# Altium integrated library SparkFun-Displays.Library.IntLib: 27 symbols
Pins are listed as number, name and electrical type; pins without a type are passive.

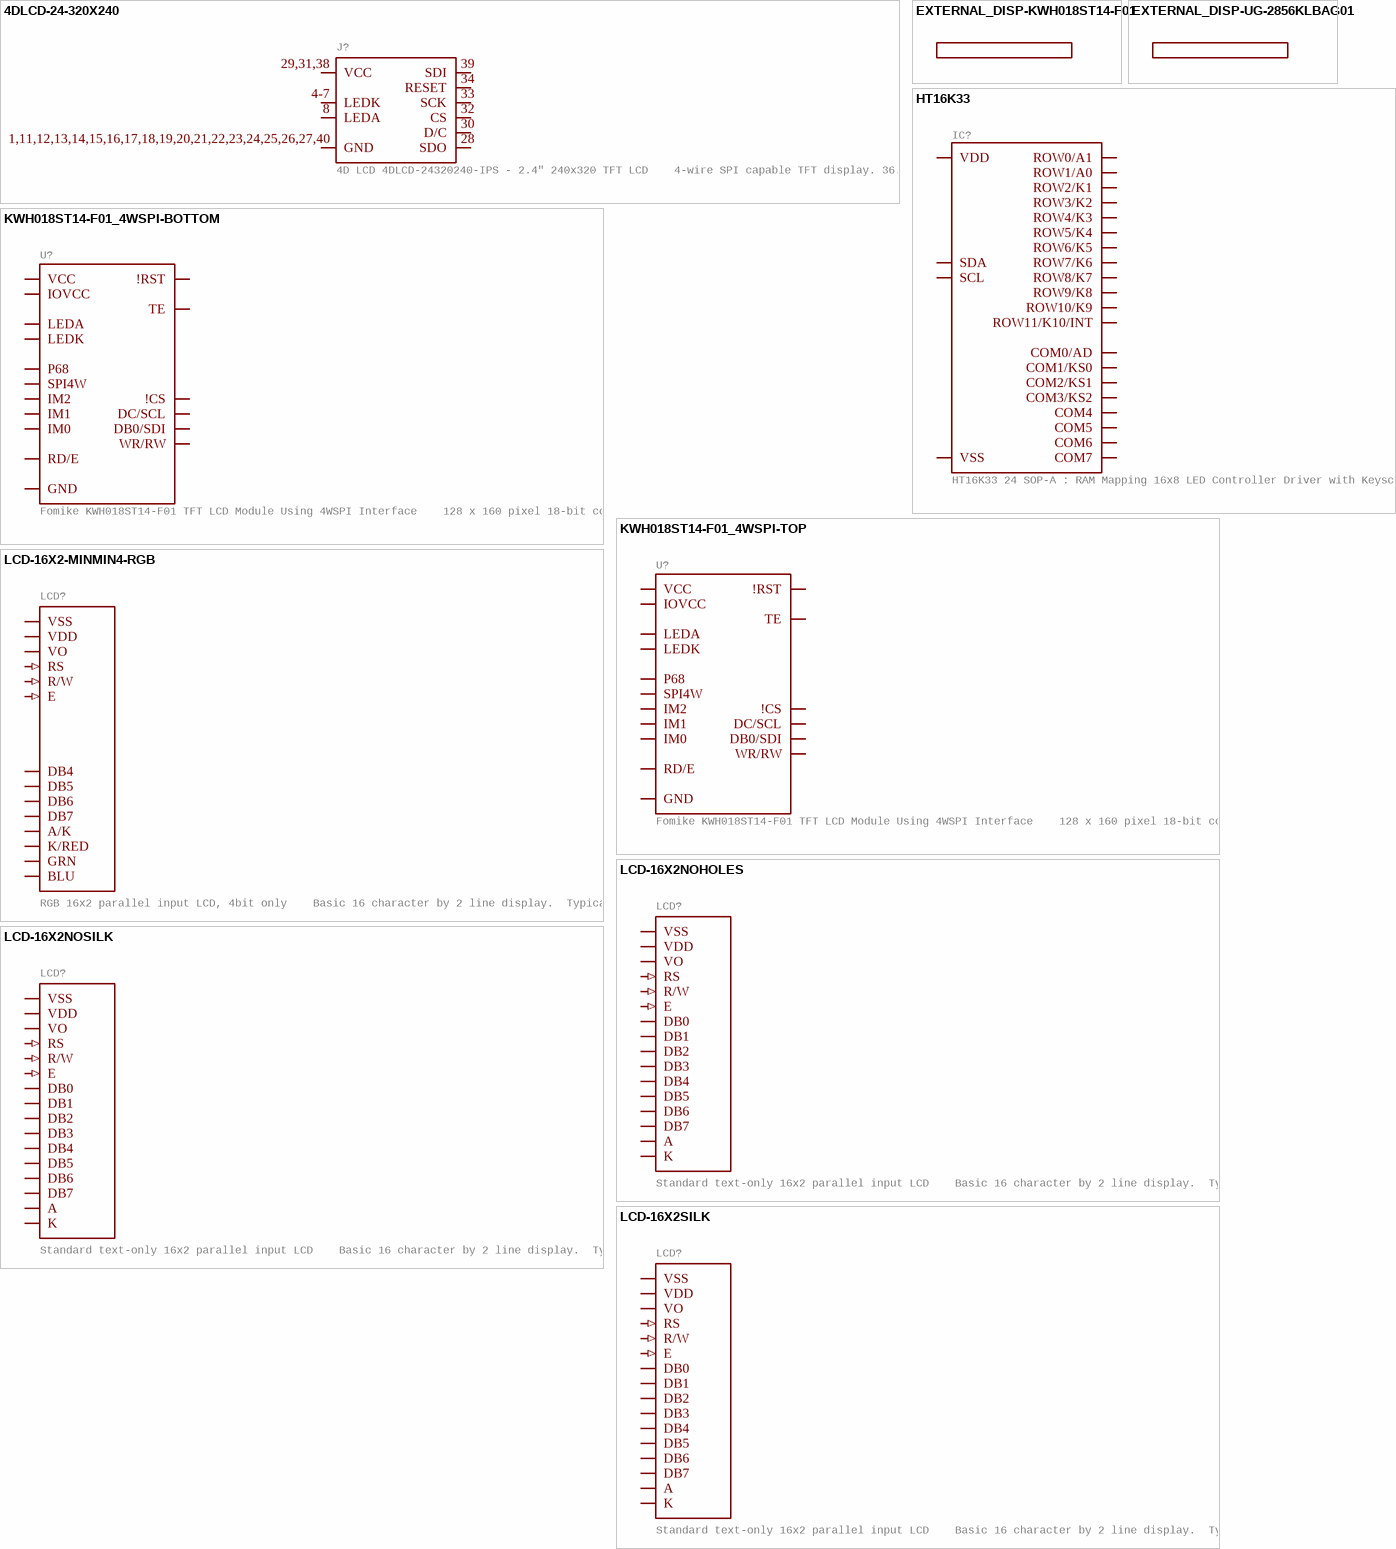
[diagram p0: symbols 4DLCD-24-320X240 to LCD-16X2SILK]

## 4DLCD-24-320X240
designator J?, comment 4D LCD 4DLCD-24320240-IPS - 2.4" 240x320 TFT LCD    4-wire SPI capable TFT display. 36.72 x 48.96mm active area
GateName_1: G$1; DeviceSetName: 4DLCD-24-320X240; PROD_ID: LCD-14913; PROD_ID1: CONN-14082; SymbolName_1: 4DLCD-24320240-IPS; LibraryName: SparkFun-Displays; Package: FPC05040-17204
footprint FPC05040-17204
pins: 1,11,12,13,14,15,16,17,18,19,20,21,22,23,24,25,26,27,40 GND (io), 4-7 LEDK (io), 8 LEDA (io), 28 SDO (io), 29,31,38 VCC (io), 30 D/C (io), 32 CS (io), 33 SCK (io), 34 RESET (io), 39 SDI (io)

## EXTERNAL_DISP-KWH018ST14-F01
designator ?, comment External Display Device    Use this device to represent a display module that you connect to your board with a connector. (The connector will be electrically linked to the symbol for your display and connected to traces) Using this along with a footprint of the display module outline will allow the BOM utility to find the correct PROD_ID for the module. Then you can move it to the BOM list (it will be in non-BOM list unless it has a hardware element like holes or pads)   Variants:  KWH018ST14-F01A footprint of the KWH018ST14-F01 with holes    SparkFun Products:  (value not drawn)
GateName_1: G$1; SymbolName_1: EXTERNAL_MODULE; DeviceName: -KWH018ST14-F01; DeviceSetName: EXTERNAL_DISP; PROD_ID: LCD-14196; LibraryName: SparkFun-Displays; Package: KWH018ST14-F01_HOLES
footprint KWH018ST14-F01_HOLES

## EXTERNAL_DISP-UG-2856KLBAG01
designator ?, comment External Display Device    Use this device to represent a display module that you connect to your board with a connector. (The connector will be electrically linked to the symbol for your display and connected to traces) Using this along with a footprint of the display module outline will allow the BOM utility to find the correct PROD_ID for the module. Then you can move it to the BOM list (it will be in non-BOM list unless it has a hardware element like holes or pads)   Variants:  KWH018ST14-F01A footprint of the KWH018ST14-F01 with holes    SparkFun Products:  (value not drawn)
GateName_1: G$1; SymbolName_1: EXTERNAL_MODULE; DeviceName: -UG-2856KLBAG01; DeviceSetName: EXTERNAL_DISP; PROD_ID: LCD-14194; LibraryName: SparkFun-Displays; Package: EXT_DISP
footprint EXT_DISP

## HT16K33
designator IC?, comment HT16K33 24 SOP-A : RAM Mapping 16x8 LED Controller Driver with Keyscan
GateName_1: G$1; PROD_ID: IC-14891; SymbolName_1: HT16K33; LibraryName: SparkFun-Displays; DeviceSetName: HT16K33; Package: HT16K33
footprint HT16K33
pins: 1 VSS (io), 2 COM0/AD (io), 3 COM1/KS0 (io), 4 COM2/KS1 (io), 5 COM3/KS2 (io), 6 COM4 (io), 7 COM5 (io), 8 COM6 (io), 9 COM7 (io), 10 ROW11/K10/INT (io), 11 ROW10/K9 (io), 12 ROW9/K8 (io), 13 ROW8/K7 (io), 14 ROW7/K6 (io), 15 ROW6/K5 (io), 16 ROW5/K4 (io), 17 ROW4/K3 (io), 18 ROW3/K2 (io), 19 ROW2/K1 (io), 20 ROW1/A0 (io), 21 ROW0/A1 (io), 22 SCL (io), 23 SDA (io), 24 VDD (power)

## KWH018ST14-F01_4WSPI-BOTTOM
designator U?, comment Fomike KWH018ST14-F01 TFT LCD Module Using 4WSPI Interface    128 x 160 pixel 18-bit color depth LCD module with LED backlight. This part uses the 4WSPI interface, though several other interface options are broken out in the FPC cable. Use the other corresponding devices for 3WSPI, and 8/9/16/18 bit parallel.     Note: PROD_ID corresponds to the connector and the second ID (PROD_ID1 = LCD-14196) corresponds to the actual module   Variants:  Bottom - For use with bottom-contact FPC connectors  Top - For use with top-contact FPC connectors     SparkFun Products:
GateName_1: G$1; SymbolName_1: KWH018ST14-F01_4WSPI; DeviceName: -BOTTOM; PROD_ID: CONN-14082; LibraryName: SparkFun-Displays; DeviceSetName: KWH018ST14-F01_4WSPI; Package: FPC05040-17204; PROD_ID1: LCD-14196
footprint FPC05040-17204
pins: 1 LEDA (io), 2 LEDK (io), 3,8,9,10,11,12,13,14,15,16,17,18,19,20,21,22,23,24,35,40 GND (io), 4 !RST (io), 5 VCC (io), 6 IOVCC (io), 7 TE (io), 25 DB0/SDI (io), 26 RD/E (io), 27 WR/RW (io), 28 DC/SCL (io), 29 !CS (io), 30 SPI4W (io), 31 P68 (io), 32 IM2 (io), 33 IM1 (io), 34 IM0 (io)

## KWH018ST14-F01_4WSPI-TOP
designator U?, comment Fomike KWH018ST14-F01 TFT LCD Module Using 4WSPI Interface    128 x 160 pixel 18-bit color depth LCD module with LED backlight. This part uses the 4WSPI interface, though several other interface options are broken out in the FPC cable. Use the other corresponding devices for 3WSPI, and 8/9/16/18 bit parallel.     Note: PROD_ID corresponds to the connector and the second ID (PROD_ID1 = LCD-14196) corresponds to the actual module   Variants:  Bottom - For use with bottom-contact FPC connectors  Top - For use with top-contact FPC connectors     SparkFun Products:
GateName_1: G$1; SymbolName_1: KWH018ST14-F01_4WSPI; DeviceName: -TOP; PROD_ID: CONN-14082; LibraryName: SparkFun-Displays; DeviceSetName: KWH018ST14-F01_4WSPI; Package: FPC05040-17204; PROD_ID1: LCD-14196
footprint FPC05040-17204
pins: 1,6,17,18,19,20,21,22,23,24,25,26,27,28,29,30,31,32,33,38 GND (io), 7 IM0 (io), 8 IM1 (io), 9 IM2 (io), 10 P68 (io), 11 SPI4W (io), 12 !CS (io), 13 DC/SCL (io), 14 WR/RW (io), 15 RD/E (io), 16 DB0/SDI (io), 34 TE (io), 35 IOVCC (io), 36 VCC (io), 37 !RST (io), 39 LEDK (io), 40 LEDA (io)

## LCD-16X2-MINMIN4-RGB
designator LCD?, comment RGB 16x2 parallel input LCD, 4bit only    Basic 16 character by 2 line display.  Typically utilizes the extremely common HD44780 parallel interface chipset    SparkFun Products:  Basic 16x2 RGB
GateName_1: U1; SymbolName_1: LCD-16X2-MIN; DeviceName: MIN4-RGB; SF_ID: LCD-10862; LibraryName: SparkFun-Displays; DeviceSetName: LCD-16X2-MIN; Package: LCD-16X2_NOSILK-KIT-4BIT
footprint LCD-16X2_NOSILK-KIT-4BIT
pins: 1 VSS (power), 2 VDD (power), 3 VO (io), 4 RS (in), 5 R/W (in), 6 E (in), 11 DB4 (io), 12 DB5 (io), 13 DB6 (io), 14 DB7 (io), 15 A/K (power), 16 K/RED (power), 17 GRN (power), 18 BLU (power)

## LCD-16X2NOHOLES
designator LCD?, comment Standard text-only 16x2 parallel input LCD    Basic 16 character by 2 line display.  Typically utilizes the extremely common HD44780 parallel interface chipset    SparkFun Products:  Basic 16x2 Green  Basic 8x2 Green
GateName_1: LCD1; SymbolName_1: LCD-16X2; DeviceName: NOHOLES; SF_ID: LCD-00255; LibraryName: SparkFun-Displays; DeviceSetName: LCD-16X2; Package: LCD-16X2_NOHOLESNOSILK
footprint LCD-16X2_NOHOLESNOSILK
pins: 1 VSS (power), 2 VDD (power), 3 VO (io), 4 RS (in), 5 R/W (in), 6 E (in), 7 DB0 (io), 8 DB1 (io), 9 DB2 (io), 10 DB3 (io), 11 DB4 (io), 12 DB5 (io), 13 DB6 (io), 14 DB7 (io), 15 A (power), 16 K (power)

## LCD-16X2NOSILK
designator LCD?, comment Standard text-only 16x2 parallel input LCD    Basic 16 character by 2 line display.  Typically utilizes the extremely common HD44780 parallel interface chipset    SparkFun Products:  Basic 16x2 Green  Basic 8x2 Green
GateName_1: LCD1; SymbolName_1: LCD-16X2; DeviceName: NOSILK; SF_ID: LCD-00255; LibraryName: SparkFun-Displays; DeviceSetName: LCD-16X2; Package: LCD-16X2_NOSILK
footprint LCD-16X2_NOSILK
pins: 1 VSS (power), 2 VDD (power), 3 VO (io), 4 RS (in), 5 R/W (in), 6 E (in), 7 DB0 (io), 8 DB1 (io), 9 DB2 (io), 10 DB3 (io), 11 DB4 (io), 12 DB5 (io), 13 DB6 (io), 14 DB7 (io), 15 A (power), 16 K (power)

## LCD-16X2SILK
designator LCD?, comment Standard text-only 16x2 parallel input LCD    Basic 16 character by 2 line display.  Typically utilizes the extremely common HD44780 parallel interface chipset    SparkFun Products:  Basic 16x2 Green  Basic 8x2 Green
GateName_1: LCD1; SymbolName_1: LCD-16X2; DeviceName: SILK; PROD_ID: LCD-12633; SF_ID: LCD-00255; LibraryName: SparkFun-Displays; DeviceSetName: LCD-16X2; Package: LCD-16X2
footprint LCD-16X2
pins: 1 VSS (power), 2 VDD (power), 3 VO (io), 4 RS (in), 5 R/W (in), 6 E (in), 7 DB0 (io), 8 DB1 (io), 9 DB2 (io), 10 DB3 (io), 11 DB4 (io), 12 DB5 (io), 13 DB6 (io), 14 DB7 (io), 15 A (power), 16 K (power)

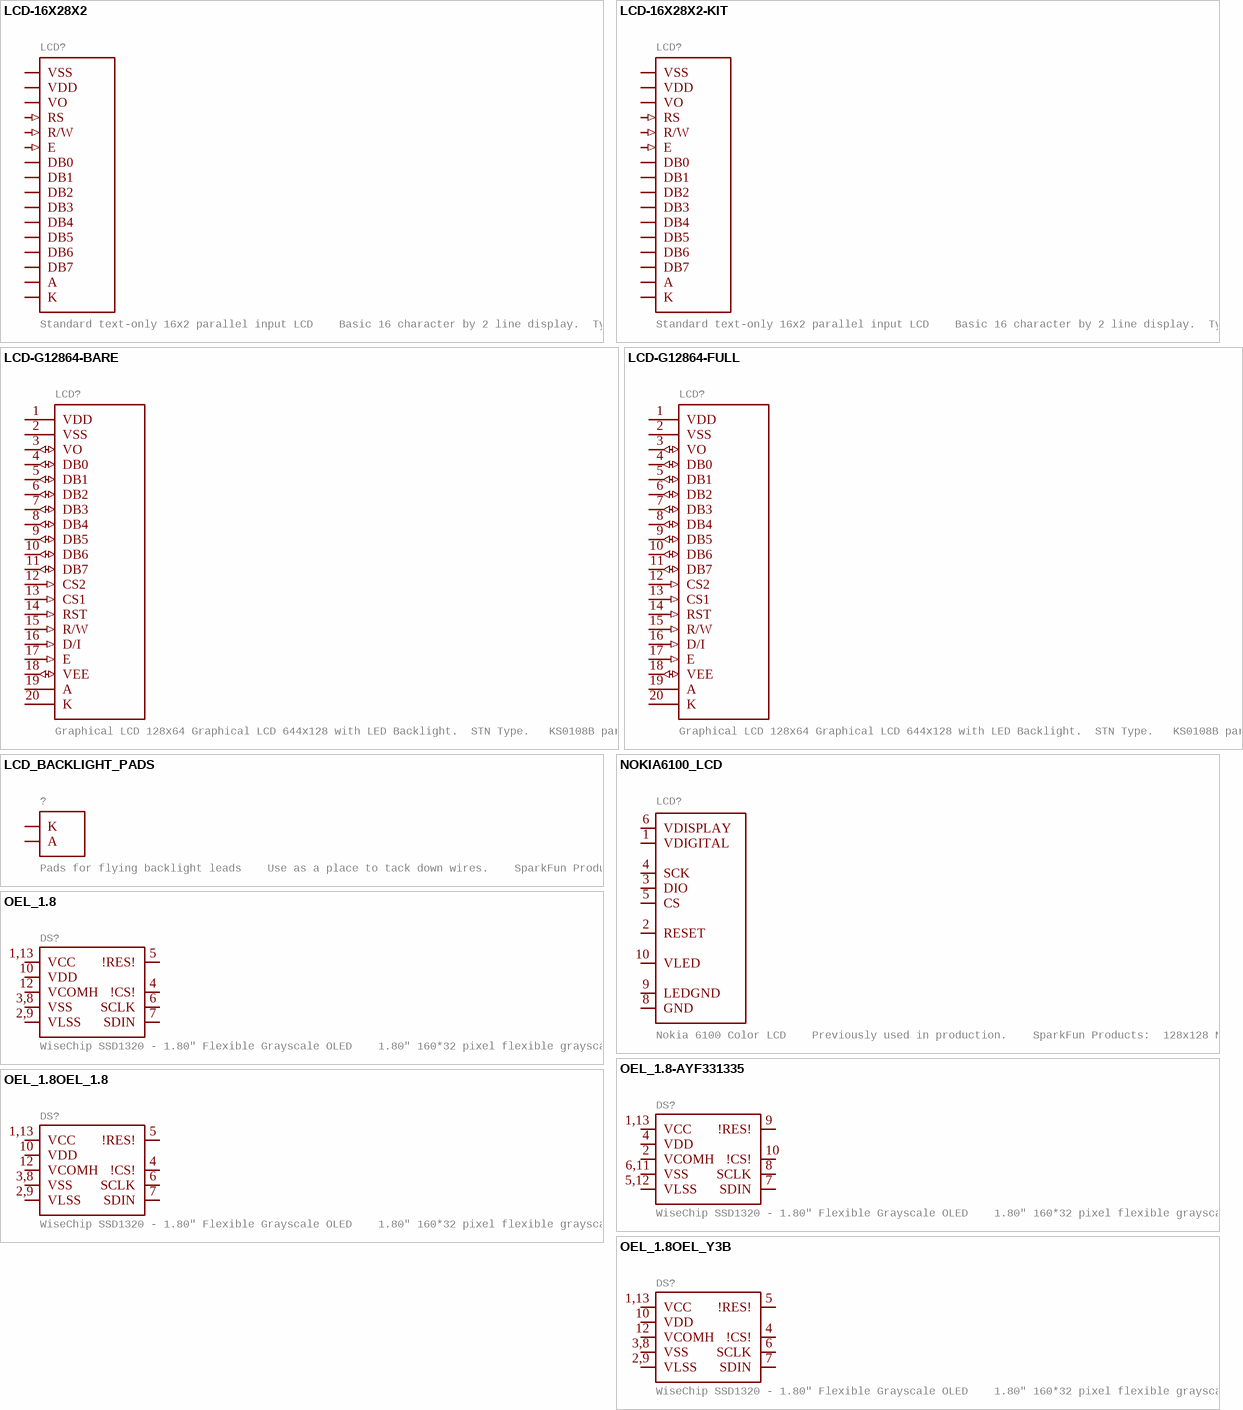
[diagram p1: symbols LCD-16X28X2 to OEL_1.8OEL_Y3B]

## LCD-16X28X2
designator LCD?, comment Standard text-only 16x2 parallel input LCD    Basic 16 character by 2 line display.  Typically utilizes the extremely common HD44780 parallel interface chipset    SparkFun Products:  Basic 16x2 Green  Basic 8x2 Green
GateName_1: LCD1; SymbolName_1: LCD-16X2; SF_ID: LCD-11122; DeviceName: 8X2; LibraryName: SparkFun-Displays; DeviceSetName: LCD-16X2; Package: LCD-8X2
footprint LCD-8X2
pins: 1 VSS (power), 2 VDD (power), 3 VO (io), 4 RS (in), 5 R/W (in), 6 E (in), 7 DB0 (io), 8 DB1 (io), 9 DB2 (io), 10 DB3 (io), 11 DB4 (io), 12 DB5 (io), 13 DB6 (io), 14 DB7 (io), 15 A (power), 16 K (power)

## LCD-16X28X2-KIT
designator LCD?, comment Standard text-only 16x2 parallel input LCD    Basic 16 character by 2 line display.  Typically utilizes the extremely common HD44780 parallel interface chipset    SparkFun Products:  Basic 16x2 Green  Basic 8x2 Green
GateName_1: LCD1; SymbolName_1: LCD-16X2; DeviceName: 8X2-KIT; SF_ID: LCD-11122; LibraryName: SparkFun-Displays; DeviceSetName: LCD-16X2; Package: LCD-8X2-KIT
footprint LCD-8X2-KIT
pins: 1 VSS (power), 2 VDD (power), 3 VO (io), 4 RS (in), 5 R/W (in), 6 E (in), 7 DB0 (io), 8 DB1 (io), 9 DB2 (io), 10 DB3 (io), 11 DB4 (io), 12 DB5 (io), 13 DB6 (io), 14 DB7 (io), 15 A (power), 16 K (power)

## LCD-G12864-BARE
designator LCD?, comment Graphical LCD 128x64 Graphical LCD 644x128 with LED Backlight.  STN Type.   KS0108B parallel interface chipset.  Datasheet   SparkFun Products:  Graphic LCD 128x64
GateName_1: G$1; SymbolName_1: LCD-G12864; DeviceName: -BARE; SF_ID: LCD-00710; LibraryName: SparkFun-Displays; DeviceSetName: LCD-G12864; Package: 1X20
footprint 1X20
pins: 1 VDD (power), 2 VSS (power), 3 VO (io), 4 DB0 (io), 5 DB1 (io), 6 DB2 (io), 7 DB3 (io), 8 DB4 (io), 9 DB5 (io), 10 DB6 (io), 11 DB7 (io), 12 CS2 (in), 13 CS1 (in), 14 RST (in), 15 R/W (in), 16 D/I (in), 17 E (in), 18 VEE (io), 19 A (power), 20 K (power)

## LCD-G12864-FULL
designator LCD?, comment Graphical LCD 128x64 Graphical LCD 644x128 with LED Backlight.  STN Type.   KS0108B parallel interface chipset.  Datasheet   SparkFun Products:  Graphic LCD 128x64
GateName_1: G$1; SymbolName_1: LCD-G12864; DeviceName: -FULL; SF_ID: LCD-00710; LibraryName: SparkFun-Displays; DeviceSetName: LCD-G12864; Package: LCD-G12864
footprint LCD-G12864
pins: 1 VDD (power), 2 VSS (power), 3 VO (io), 4 DB0 (io), 5 DB1 (io), 6 DB2 (io), 7 DB3 (io), 8 DB4 (io), 9 DB5 (io), 10 DB6 (io), 11 DB7 (io), 12 CS2 (in), 13 CS1 (in), 14 RST (in), 15 R/W (in), 16 D/I (in), 17 E (in), 18 VEE (io), 19 A (power), 20 K (power)

## LCD_BACKLIGHT_PADS
designator ?, comment Pads for flying backlight leads    Use as a place to tack down wires.    SparkFun Products:  sparkfun.com
GateName_1: G$1; SymbolName_1: LCD_BACKLIGHT_PADS; LibraryName: SparkFun-Displays; DeviceSetName: LCD_BACKLIGHT_PADS; Package: LCD_BACKLIGHT_PADS
footprint LCD_BACKLIGHT_PADS
pins: P$1 A (io), P$2 K (io)

## NOKIA6100_LCD
designator LCD?, comment Nokia 6100 Color LCD    Previously used in production.    SparkFun Products:  128x128 Nokia Knock-Off (Retired)  Color LCD SMD connector
GateName_1: G$1; SymbolName_1: NOKIA6100_LCD; SF_ID: LCD-00570; LibraryName: SparkFun-Displays; DeviceSetName: NOKIA6100_LCD; Package: NOKIA6100_LCD
footprint NOKIA6100_LCD
pins: 1 VDIGITAL (io), 2 RESET (io), 3 DIO (io), 4 SCK (io), 5 CS (io), 6 VDISPLAY (io), 8 GND (io), 9 LEDGND (io), 10 VLED (io)

## OEL_1.8
designator DS?, comment WiseChip SSD1320 - 1.80" Flexible Grayscale OLED    1.80" 160*32 pixel flexible grayscale OLED display
GateName_1: G$1; SymbolName_1: OEL_1.8; LibraryName: SparkFun-Displays; DeviceSetName: OEL_1.8; Package: FPC-13
footprint FPC-13
pins: 1,13 VCC (io), 2,9 VLSS (io), 3,8 VSS (io), 4 !CS! (io), 5 !RES! (io), 6 SCLK (io), 7 SDIN (io), 10 VDD (io), 12 VCOMH (io)

## OEL_1.8-AYF331335
designator DS?, comment WiseChip SSD1320 - 1.80" Flexible Grayscale OLED    1.80" 160*32 pixel flexible grayscale OLED display
GateName_1: G$1; SymbolName_1: OEL_1.8; DeviceName: -AYF331335; LibraryName: SparkFun-Displays; DeviceSetName: OEL_1.8; Package: AYF331335
footprint AYF331335
pins: 1,13 VCC (io), 2 VCOMH (io), 4 VDD (io), 5,12 VLSS (io), 6,11 VSS (io), 7 SDIN (io), 8 SCLK (io), 9 !RES! (io), 10 !CS! (io)

## OEL_1.8OEL_1.8
designator DS?, comment WiseChip SSD1320 - 1.80" Flexible Grayscale OLED    1.80" 160*32 pixel flexible grayscale OLED display
GateName_1: G$1; SymbolName_1: OEL_1.8; DeviceName: OEL_1.8; LibraryName: SparkFun-Displays; DeviceSetName: OEL_1.8; Package: OEL_1.8_FPC
footprint OEL_1.8_FPC
pins: 1,13 VCC (io), 2,9 VLSS (io), 3,8 VSS (io), 4 !CS! (io), 5 !RES! (io), 6 SCLK (io), 7 SDIN (io), 10 VDD (io), 12 VCOMH (io)

## OEL_1.8OEL_Y3B
designator DS?, comment WiseChip SSD1320 - 1.80" Flexible Grayscale OLED    1.80" 160*32 pixel flexible grayscale OLED display
GateName_1: G$1; SymbolName_1: OEL_1.8; DeviceName: OEL_Y3B; PROD_ID: LCD-13910, CONN-13933; LibraryName: SparkFun-Displays; DeviceSetName: OEL_1.8; Package: OEL_1.8_FPC_Y3B
footprint OEL_1.8_FPC_Y3B
pins: 1,13 VCC (io), 2,9 VLSS (io), 3,8 VSS (io), 4 !CS! (io), 5 !RES! (io), 6 SCLK (io), 7 SDIN (io), 10 VDD (io), 12 VCOMH (io)

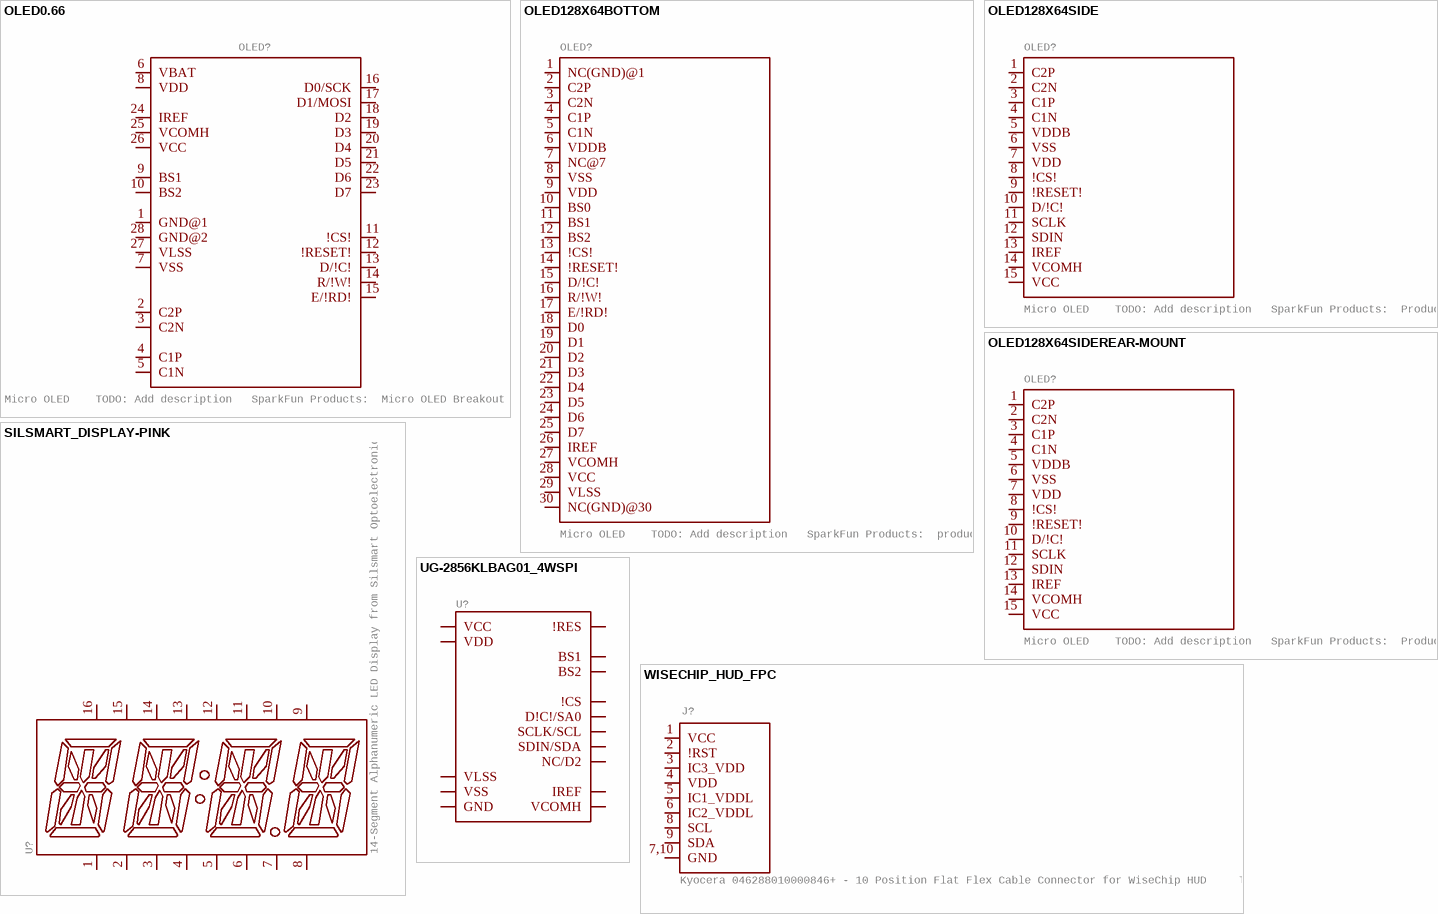
[diagram p2: symbols OLED0.66 to WISECHIP_HUD_FPC]

## OLED0.66
designator OLED?, comment Micro OLED    TODO: Add description   SparkFun Products:  Micro OLED Breakout
GateName_1: G1; SymbolName_1: OLED0.66; PROD_ID: LCD-12019; LibraryName: SparkFun-Displays; DeviceSetName: OLED0.66; Package: OLED-0.66-64X48
footprint OLED-0.66-64X48
pins: 1 GND@1 (io), 2 C2P (io), 3 C2N (io), 4 C1P (io), 5 C1N (io), 6 VBAT (io), 7 VSS (io), 8 VDD (io), 9 BS1 (io), 10 BS2 (io), 11 !CS! (io), 12 !RESET! (io), 13 D/!C! (io), 14 R/!W! (io), 15 E/!RD! (io), 16 D0/SCK (io), 17 D1/MOSI (io), 18 D2 (io), 19 D3 (io), 20 D4 (io), 21 D5 (io), 22 D6 (io), 23 D7 (io), 24 IREF (io), 25 VCOMH (io), 26 VCC (io), 27 VLSS (io), 28 GND@2 (io)

## OLED128X64BOTTOM
designator OLED?, comment Micro OLED    TODO: Add description   SparkFun Products:  product
GateName_1: G$1; SymbolName_1: OLED-UG-2832TSWGG01; DeviceSetName: OLED128X64BOTTOM; LibraryName: SparkFun-Displays; Package: OLED-UG-2832HLBEG04
footprint OLED-UG-2832HLBEG04
pins: 1 NC(GND)@1 (io), 2 C2P (io), 3 C2N (io), 4 C1P (io), 5 C1N (io), 6 VDDB (io), 7 NC@7 (io), 8 VSS (io), 9 VDD (io), 10 BS0 (io), 11 BS1 (io), 12 BS2 (io), 13 !CS! (io), 14 !RESET! (io), 15 D/!C! (io), 16 R/!W! (io), 17 E/!RD! (io), 18 D0 (io), 19 D1 (io), 20 D2 (io), 21 D3 (io), 22 D4 (io), 23 D5 (io), 24 D6 (io), 25 D7 (io), 26 IREF (io), 27 VCOMH (io), 28 VCC (io), 29 VLSS (io), 30 NC(GND)@30 (io)

## OLED128X64SIDE
designator OLED?, comment Micro OLED    TODO: Add description   SparkFun Products:  Product
GateName_1: G$1; SymbolName_1: OLED-UG-2832HLBEG04; DeviceSetName: OLED128X64SIDE; PROD_ID: LCD-13577; LibraryName: SparkFun-Displays; Package: OLED-UG-2832TSWGG01
footprint OLED-UG-2832TSWGG01
pins: 1 C2P (io), 2 C2N (io), 3 C1P (io), 4 C1N (io), 5 VDDB (io), 6 VSS (io), 7 VDD (io), 8 !CS! (io), 9 !RESET! (io), 10 D/!C! (io), 11 SCLK (io), 12 SDIN (io), 13 IREF (io), 14 VCOMH (io), 15 VCC (io)

## OLED128X64SIDEREAR-MOUNT
designator OLED?, comment Micro OLED    TODO: Add description   SparkFun Products:  Product
GateName_1: G$1; SymbolName_1: OLED-UG-2832HLBEG04; DeviceName: REAR-MOUNT; DeviceSetName: OLED128X64SIDE; PROD_ID: LCD-13577; LibraryName: SparkFun-Displays; Package: OLED-UG-2832TSWGG01-REAR
footprint OLED-UG-2832TSWGG01-REAR
pins: 1 C2P (io), 2 C2N (io), 3 C1P (io), 4 C1N (io), 5 VDDB (io), 6 VSS (io), 7 VDD (io), 8 !CS! (io), 9 !RESET! (io), 10 D/!C! (io), 11 SCLK (io), 12 SDIN (io), 13 IREF (io), 14 VCOMH (io), 15 VCC (io)

## SILSMART_DISPLAY-PINK
designator U?, comment 14-Segment Alphanumeric LED Display from Silsmart Optoelectronics
GateName_1: G$1; SymbolName_1: SILSMART_DISPLAY; DeviceName: -PINK; PROD_ID: COMP-15045; LibraryName: SparkFun-Displays; DeviceSetName: SILSMART_DISPLAY; Package: SILSMART_DISPLAY
footprint SILSMART_DISPLAY
pins: 1 DIG_1B (io), 2 DIG_2B (io), 3 COM_D (io), 4 COM_C (io), 5 COM_G1 (io), 6 COM_E (io), 7 DIG_DP (io), 8 DIG_4A (io), 9 DIG_4B (io), 10 DIG_3B (io), 11 DIG_3A (io), 12 COM_F (io), 13 COM_B (io), 14 COM_A (io), 15 DIG_2A (io), 16 DIG_1A (io)

## UG-2856KLBAG01_4WSPI
designator U?
GateName_1: G$1; SymbolName_1: SAS1-1U001-A_I2C_4WSPI; DeviceSetName: UG-2856KLBAG01_4WSPI; PROD_ID: CONN-14195; LibraryName: SparkFun-Displays; Package: FPC05024-42201
footprint FPC05024-42201
pins: P$1,11,12,16,17,18,19,20,24 GND (io), P$2 VLSS (io), P$3 VSS (io), P$5 VDD (io), P$6 BS1 (io), P$7 BS2 (io), P$8 !CS (io), P$9 !RES (io), P$10 D!C!/SA0 (io), P$13 SCLK/SCL (io), P$14 SDIN/SDA (io), P$15 NC/D2 (io), P$21 IREF (io), P$22 VCOMH (io), P$23 VCC (io)

## WISECHIP_HUD_FPC
designator J?, comment Kyocera 046288010000846+ - 10 Position Flat Flex Cable Connector for WiseChip HUD     This 10 position FFC connects to the WiseChip transparent OLED HUD (Part Number: WiseChip US-0011 MIAG01, SFE SKU: LCD-14137)   SparkFun Products: SparkX Qwiic Transparent OLED HUD
GateName_1: G$1; SymbolName_1: 10-POS-FPC; DeviceSetName: WISECHIP_HUD_FPC; PROD_ID: LCD-14137, CONN-14136; LibraryName: SparkFun-Displays; Package: SERIES6288
footprint SERIES6288
pins: 1 VCC (io), 2 !RST (io), 3 IC3_VDD (io), 4 VDD (io), 5 IC1_VDDL (io), 6 IC2_VDDL (io), 7,10 GND (io), 8 SCL (io), 9 SDA (io)